# Altium integrated library NSC Amplifier.IntLib: 1615 symbols (part 12 of 44)
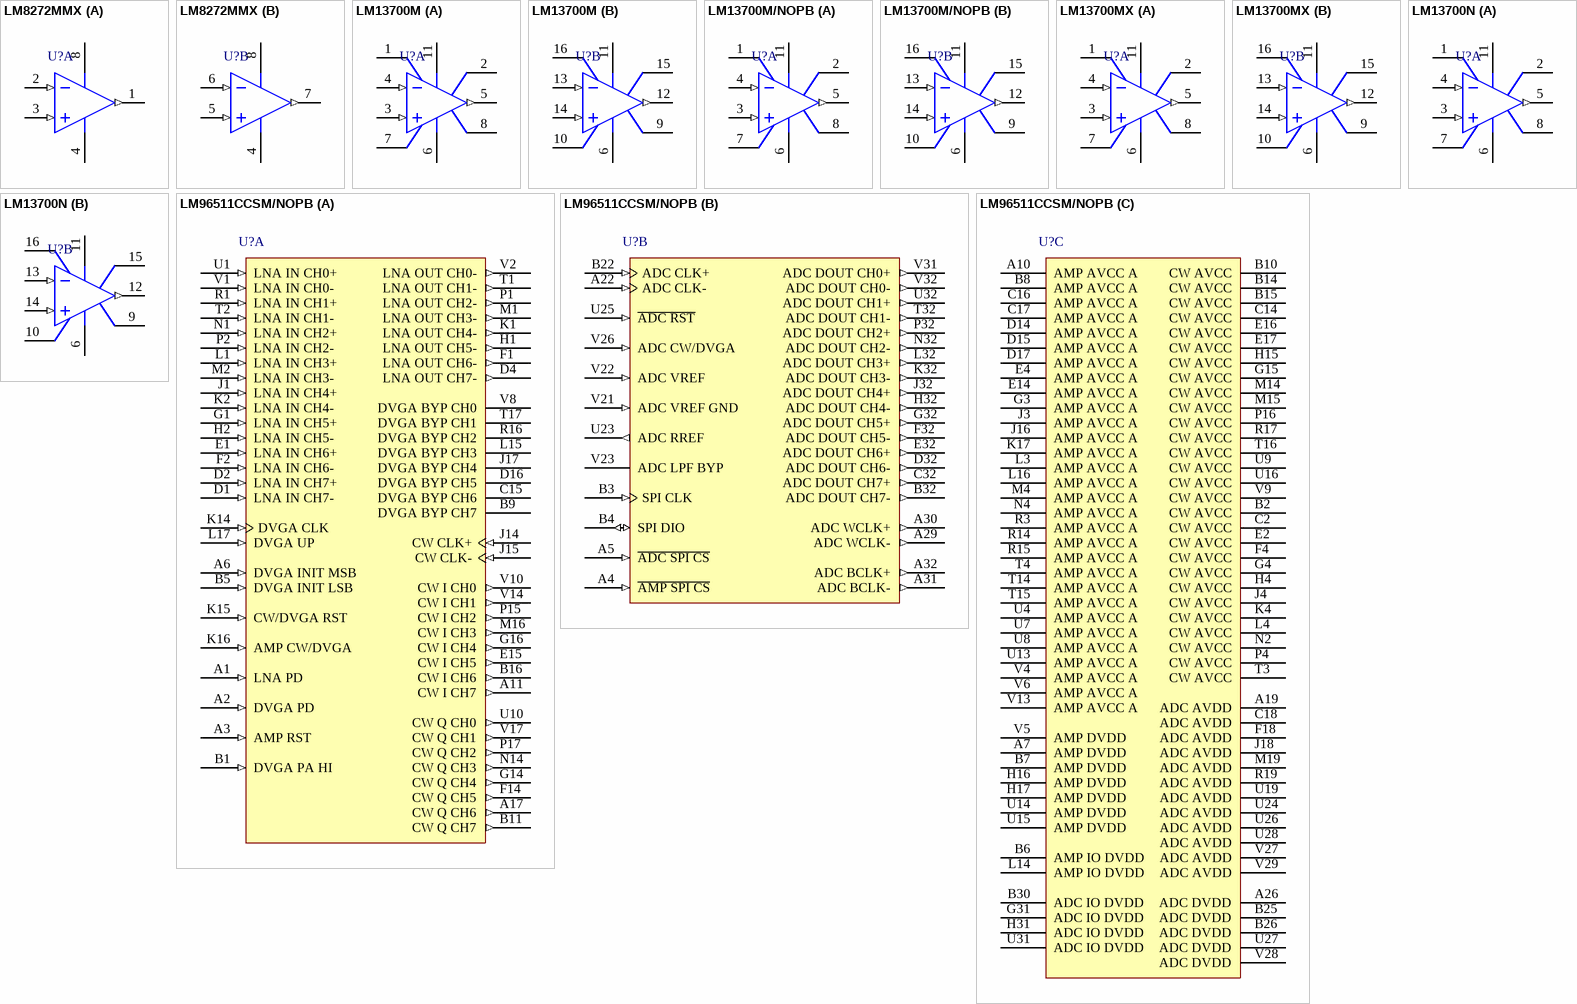
[diagram p93: symbols LM8272MMX to LM96511CCSM/NOPB]

## LM13700M/NOPB
designator U?
Dual Operational Transconductance Amplifier with Linearizing Diodes and Buffers, 16-pin Narrow SOIC, Pb-Free; PartNumber: LM13700M/NOPB; Manufacturer: National Semiconductor; PackageTopMarking: NSUZXYTTE#*LM13700M; PowerWise: N; CompType: Amplifiers; Published: 1-Mar-2010; DatasheetVersion: Jun-2004; PackageVersion: revJ, Aug-1995; PackageReference: M16A; Publisher: Altium Limited; PackageDescription: Molded Package, SO, .150in Wide, 16 Lead; Supplier 1: Digi-Key; Supplier Part Number 1: LM13700M-ND; Supplier 2: Farnell; Supplier Part Number 2: 1468910; RoHS: Y; PinCount: 16; Code_JEDEC: MS-012-AC; Code_IPC: SOIC127P600-16; ComponentLink1Description: LM13700 Datasheet; ComponentLink1URL: http://www.national.com/ds/LM/LM13700.pdf; ComponentLink2Description: LM13700 Web Page; ComponentLink2URL: http://www.national.com/pf/LM/LM13700.html; ComponentLink3Description: M16A Package Page; ComponentLink3URL: http://www.national.com/packaging/folders/m16a.html
footprint M16A_N (SOIC, 16-Leads, Body 9.9x3.9mm, Pitch 1.27mm, IPC Medium Density)
footprint M16A_L (SOIC, 16-Leads, Body 9.9x3.9mm, Pitch 1.27mm, IPC High Density)
footprint M16A_M (SOIC, 16-Leads, Body 9.9x3.9mm, Pitch 1.27mm, IPC Low Density)
simulation model LM13700 (SUBCKT)
pins on every part: 6 V- (power), 11 V+ (power)
part A pins: 1 AMP BIAS IN1, 2 DIODE BIAS1, 3 IN1+ (in), 4 IN1- (in), 5 OUT1 (out), 7 BUF IN1, 8 BUF OUT1
part B pins: 9 BUF OUT2, 10 BUF IN2, 12 OUT2 (out), 13 IN2- (in), 14 IN2+ (in), 15 DIODE BIAS2, 16 AMP BIAS IN2

## LM13700MX
designator U?
Dual Operational Transconductance Amplifier with Linearizing Diodes and Buffers, 16-pin Narrow SOIC; PartNumber: LM13700MX; Manufacturer: National Semiconductor; PackageTopMarking: NSUZXYTTE#*LM13700M; PowerWise: N; CompType: Amplifiers; Published: 1-Mar-2010; DatasheetVersion: Jun-2004; PackageVersion: revJ, Aug-1995; PackageReference: M16A; Publisher: Altium Limited; PackageDescription: Molded Package, SO, .150in Wide, 16 Lead; RoHS: N; PinCount: 16; Code_JEDEC: MS-012-AC; Code_IPC: SOIC127P600-16; ComponentLink1Description: LM13700 Datasheet; ComponentLink1URL: http://www.national.com/ds/LM/LM13700.pdf; ComponentLink2Description: LM13700 Web Page; ComponentLink2URL: http://www.national.com/pf/LM/LM13700.html; ComponentLink3Description: M16A Package Page; ComponentLink3URL: http://www.national.com/packaging/folders/m16a.html
footprint M16A_N (SOIC, 16-Leads, Body 9.9x3.9mm, Pitch 1.27mm, IPC Medium Density)
footprint M16A_L (SOIC, 16-Leads, Body 9.9x3.9mm, Pitch 1.27mm, IPC High Density)
footprint M16A_M (SOIC, 16-Leads, Body 9.9x3.9mm, Pitch 1.27mm, IPC Low Density)
simulation model LM13700 (SUBCKT)
pins on every part: 6 V- (power), 11 V+ (power)
part A pins: 1 AMP BIAS IN1, 2 DIODE BIAS1, 3 IN1+ (in), 4 IN1- (in), 5 OUT1 (out), 7 BUF IN1, 8 BUF OUT1
part B pins: 9 BUF OUT2, 10 BUF IN2, 12 OUT2 (out), 13 IN2- (in), 14 IN2+ (in), 15 DIODE BIAS2, 16 AMP BIAS IN2

## LM13700N
designator U?
Dual Operational Transconductance Amplifier with Linearizing Diodes and Buffers, 16-pin MDIP; PartNumber: LM13700N; Manufacturer: National Semiconductor; PackageTopMarking: NSUZXYYTTE#*LM13700N; PowerWise: N; CompType: Amplifiers; Published: 4-Dec-2008; LatestRevisionDate: 13-Jan-2009; LatestRevisionNote: Sim Model Added.; DatasheetVersion: Jun-2004; PackageVersion: revG, May-2006; PackageReference: N16E; Publisher: Altium Limited; PackageDescription: MDIP, .750 x .250 x .130in, 16 Lead, .100in Pitch; RoHS: N; PinCount: 16; Code_JEDEC: MS-001-BB; ComponentLink1Description: LM13700 Datasheet; ComponentLink1URL: http://www.national.com/ds/LM/LM13700.pdf; ComponentLink2Description: LM13700 Web Page; ComponentLink2URL: http://www.national.com/pf/LM/LM13700.html; ComponentLink3Description: N16E Package Page; ComponentLink3URL: http://www.national.com/packaging/folders/n16e.html
footprint N16E (DIP, 16-Leads, Row Spacing 7.62mm, Pitch 2.54mm, Body 19.3x6.35mm)
simulation model LM13700 (SUBCKT)
pins on every part: 6 V- (power), 11 V+ (power)
part A pins: 1 AMP BIAS IN1, 2 DIODE BIAS1, 3 IN1+ (in), 4 IN1- (in), 5 OUT1 (out), 7 BUF IN1, 8 BUF OUT1
part B pins: 9 BUF OUT2, 10 BUF IN2, 12 OUT2 (out), 13 IN2- (in), 14 IN2+ (in), 15 DIODE BIAS2, 16 AMP BIAS IN2

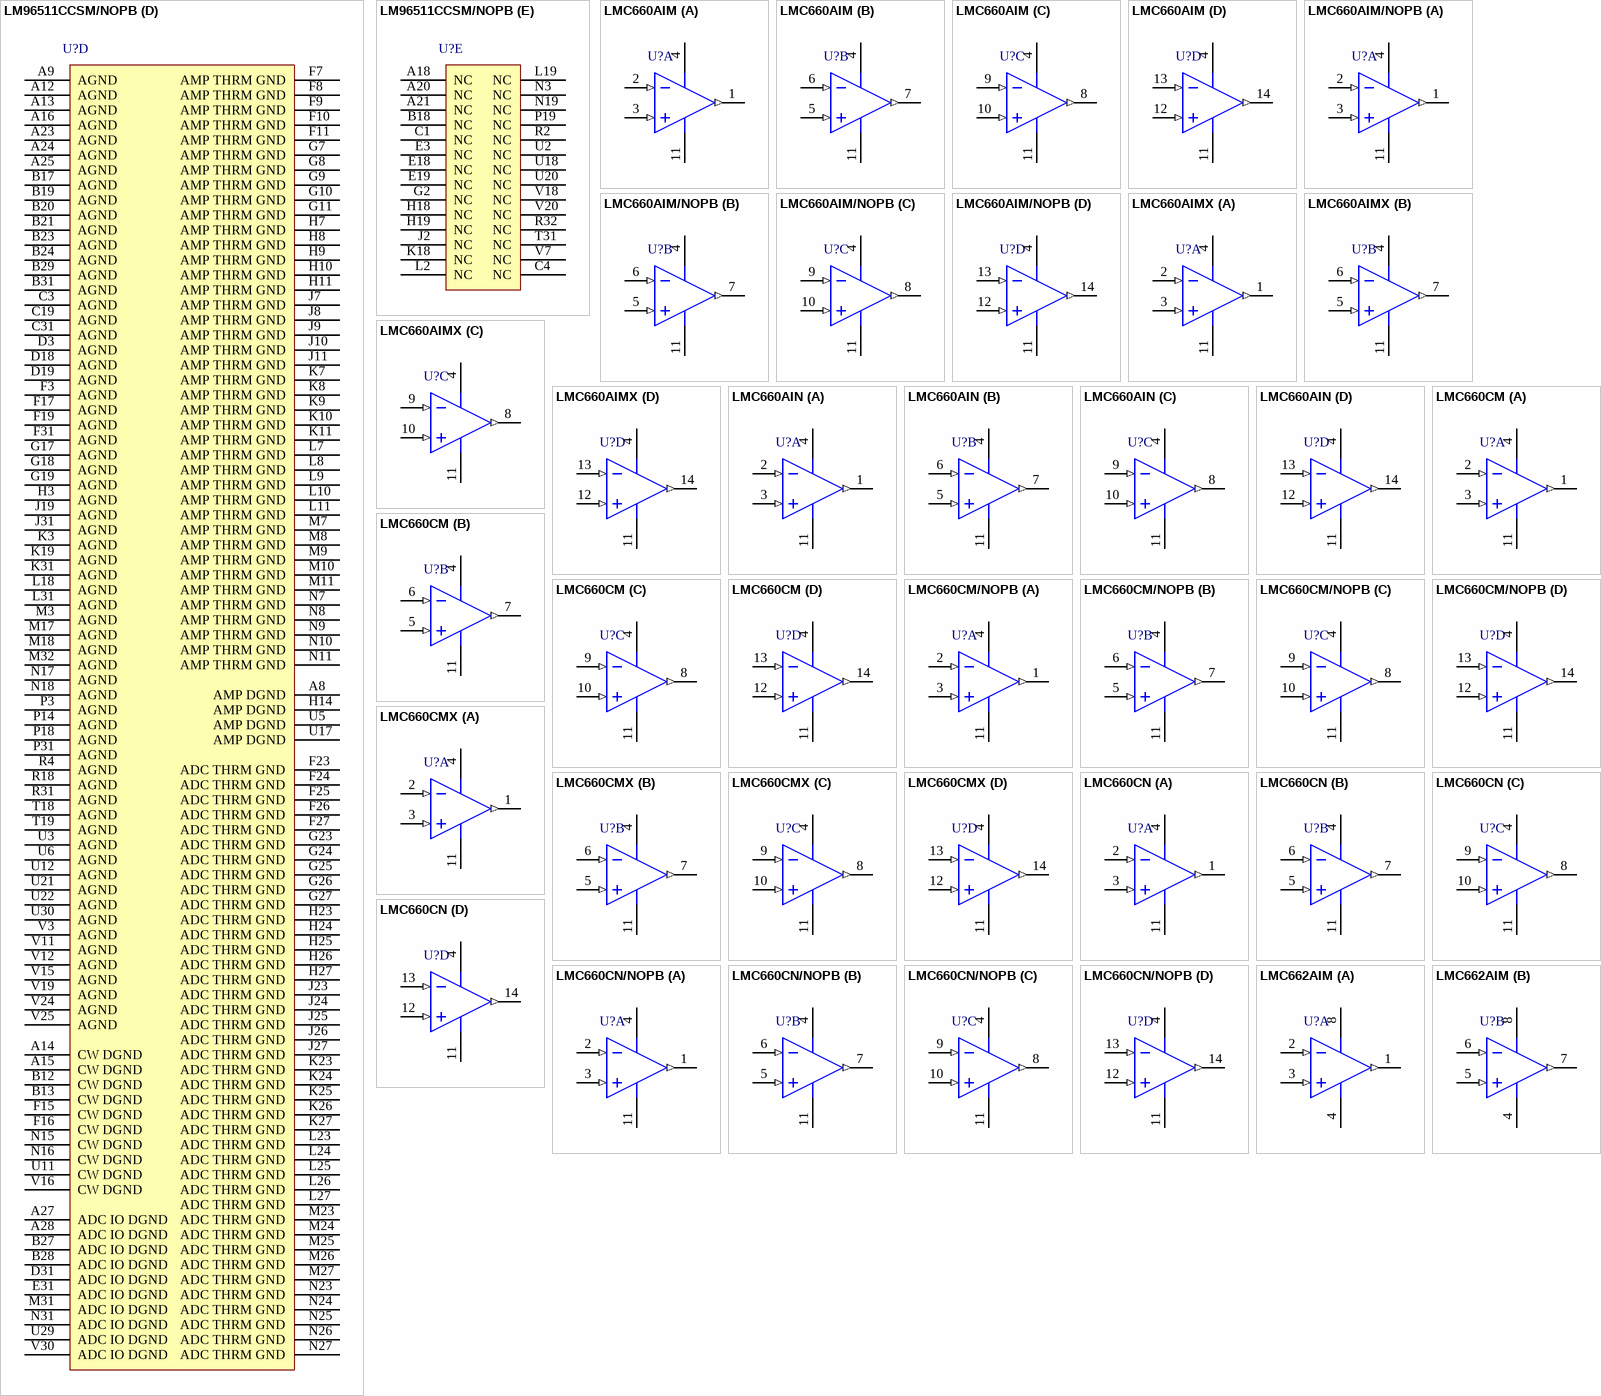
[diagram p26: symbols LM96511CCSM/NOPB to LMC662AIM]

## LM96511CCSM/NOPB
designator U?
Ultrasound Receive Analog Front End (AFE), 376 pin TFBGA *amplifier*adc*; PartNumber: LM96511CCSM/NOPB; Manufacturer: National Semiconductor; PackageTopMarking: UZXYTTE#*LM96511; PowerWise: N; CompType: Amplifiers; Published: 16-Nov-2010; DatasheetVersion: Sep-2010; PackageVersion: revA, Aug-2008; PackageReference: SLM376A; Publisher: Altium Limited; PackageDescription: TFBGA, Plastic, Laminate, 17 x 10 x 1.2mm, 376 Ball, 0.5mm Pitch; RoHS: Y; PinCount: 376; ComponentLink1Description: LM96511 Datasheet; ComponentLink1URL: http://www.national.com/ds/LM/LM96511.pdf; ComponentLink2Description: LM96511 Web Page; ComponentLink2URL: http://www.national.com/pf/LM/LM96511.html
footprint SLM376A (BGA, 376-Leads, Body 10x17mm, Pitch 0.5mm)
part A pins: A1 LNA PD (in), A2 DVGA PD (in), A3 AMP RST (in), A6 DVGA INIT MSB (in), A11 CW I CH7 (out), A17 CW Q CH6 (out), B1 DVGA PA HI (in), B5 DVGA INIT LSB (in), B9 DVGA BYP CH7, B11 CW Q CH7 (out), B16 CW I CH6 (out), C15 DVGA BYP CH6, D1 LNA IN CH7- (in), D2 LNA IN CH7+ (in), D4 LNA OUT CH7- (out), D16 DVGA BYP CH5, E1 LNA IN CH6+ (in), E15 CW I CH5 (out), F1 LNA OUT CH6- (out), F2 LNA IN CH6- (in), F14 CW Q CH5 (out), G1 LNA IN CH5+ (in), G14 CW Q CH4 (out), G16 CW I CH4 (out), H1 LNA OUT CH5- (out), H2 LNA IN CH5- (in), J1 LNA IN CH4+ (in), J14 CW CLK+ (in), J15 CW CLK- (in), J17 DVGA BYP CH4, K1 LNA OUT CH4- (out), K2 LNA IN CH4- (in), K14 DVGA CLK (in), K15 CW/DVGA RST (in), K16 AMP CW/DVGA  (in), L1 LNA IN CH3+ (in), L15 DVGA BYP CH3, L17 DVGA UP (in), M1 LNA OUT CH3- (out), M2 LNA IN CH3- (in), M16 CW I CH3 (out), N1 LNA IN CH2+ (in), N14 CW Q CH3 (out), P1 LNA OUT CH2- (out), P2 LNA IN CH2- (in), P15 CW I CH2 (out), P17 CW Q CH2 (out), R1 LNA IN CH1+ (in), R16 DVGA BYP CH2, T1 LNA OUT CH1- (out), T2 LNA IN CH1- (in), T17 DVGA BYP CH1, U1 LNA IN CH0+ (in), U10 CW Q CH0 (out), V1 LNA IN CH0- (in), V2 LNA OUT CH0- (out), V8 DVGA BYP CH0, V10 CW I CH0 (out), V14 CW I CH1 (out), V17 CW Q CH1 (out)
part B pins: A4 ~{AMP SPI CS} (in), A5 ~{ADC SPI CS} (in), A22 ADC CLK- (in), A29 ADC WCLK- (out), A30 ADC WCLK+ (out), A31 ADC BCLK- (out), A32 ADC BCLK+ (out), B3 SPI CLK (in), B4 SPI DIO (io), B22 ADC CLK+ (in), B32 ADC DOUT CH7- (out), C32 ADC DOUT CH7+ (out), D32 ADC DOUT CH6- (out), E32 ADC DOUT CH6+ (out), F32 ADC DOUT CH5- (out), G32 ADC DOUT CH5+ (out), H32 ADC DOUT CH4- (out), J32 ADC DOUT CH4+ (out), K32 ADC DOUT CH3- (out), L32 ADC DOUT CH3+ (out), N32 ADC DOUT CH2- (out), P32 ADC DOUT CH2+ (out), T32 ADC DOUT CH1- (out), U23 ADC RREF (out), U25 ~{ADC RST} (in), U32 ADC DOUT CH1+ (out), V21 ADC VREF GND (in), V22 ADC VREF (in), V23 ADC LPF BYP, V26 ADC CW/DVGA (in), V31 ADC DOUT CH0+ (out), V32 ADC DOUT CH0- (out)
part C pins: A7 AMP DVDD (power), A10 AMP AVCC A (power), A19 ADC AVDD (power), A26 ADC DVDD (power), B2 CW AVCC (power), B6 AMP IO DVDD (power), B7 AMP DVDD (power), B8 AMP AVCC A (power), B10 CW AVCC (power), B14 CW AVCC (power), B15 CW AVCC (power), B25 ADC DVDD (power), B26 ADC DVDD (power), B30 ADC IO DVDD (power), C2 CW AVCC (power), C14 CW AVCC (power), C16 AMP AVCC A (power), C17 AMP AVCC A (power), C18 ADC AVDD (power), D14 AMP AVCC A (power), D15 AMP AVCC A (power), D17 AMP AVCC A (power), E2 CW AVCC (power), E4 AMP AVCC A (power), E14 AMP AVCC A (power), E16 CW AVCC (power), E17 CW AVCC (power), F4 CW AVCC (power), F18 ADC AVDD (power), G3 AMP AVCC A (power), G4 CW AVCC (power), G15 CW AVCC (power), G31 ADC IO DVDD (power), H4 CW AVCC (power), H15 CW AVCC (power), H16 AMP DVDD (power), H17 AMP DVDD (power), H31 ADC IO DVDD (power), J3 AMP AVCC A (power), J4 CW AVCC (power), J16 AMP AVCC A (power), J18 ADC AVDD (power), K4 CW AVCC (power), K17 AMP AVCC A (power), L3 AMP AVCC A (power), L4 CW AVCC (power), L14 AMP IO DVDD (power), L16 AMP AVCC A (power), M4 AMP AVCC A (power), M14 CW AVCC (power), M15 CW AVCC (power), M19 ADC AVDD (power), N2 CW AVCC (power), N4 AMP AVCC A (power), P4 CW AVCC (power), P16 CW AVCC (power), R3 AMP AVCC A (power), R14 AMP AVCC A (power), R15 AMP AVCC A (power), R17 CW AVCC (power), R19 ADC AVDD (power), T3 CW AVCC (power), T4 AMP AVCC A (power), T14 AMP AVCC A (power), T15 AMP AVCC A (power), T16 CW AVCC (power), U4 AMP AVCC A (power), U7 AMP AVCC A (power), U8 AMP AVCC A (power), U9 CW AVCC (power), U13 AMP AVCC A (power), U14 AMP DVDD (power), U15 AMP DVDD (power), U16 CW AVCC (power), U19 ADC AVDD (power), U24 ADC AVDD (power), U26 ADC AVDD (power), U27 ADC DVDD (power), U28 ADC AVDD (power), U31 ADC IO DVDD (power), V4 AMP AVCC A (power), V5 AMP DVDD (power), V6 AMP AVCC A (power), V9 CW AVCC (power), V13 AMP AVCC A (power), V27 ADC AVDD (power), V28 ADC DVDD (power), V29 ADC AVDD (power)
part D pins: A8 AMP DGND (power), A9 AGND (power), A12 AGND (power), A13 AGND (power), A14 CW DGND (power), A15 CW DGND (power), A16 AGND (power), A23 AGND (power), A24 AGND (power), A25 AGND (power), A27 ADC IO DGND (power), A28 ADC IO DGND (power), B12 CW DGND (power), B13 CW DGND (power), B17 AGND (power), B19 AGND (power), B20 AGND (power), B21 AGND (power), B23 AGND (power), B24 AGND (power), B27 ADC IO DGND (power), B28 ADC IO DGND (power), B29 AGND (power), B31 AGND (power), C3 AGND (power), C19 AGND (power), C31 AGND (power), D3 AGND (power), D18 AGND (power), D19 AGND (power), D31 ADC IO DGND (power), E31 ADC IO DGND (power), F3 AGND (power), F7 AMP THRM GND (power), F8 AMP THRM GND (power), F9 AMP THRM GND (power), F10 AMP THRM GND (power), F11 AMP THRM GND (power), F15 CW DGND (power), F16 CW DGND (power), F17 AGND (power), F19 AGND (power), F23 ADC THRM GND (power), F24 ADC THRM GND (power), F25 ADC THRM GND (power), F26 ADC THRM GND (power), F27 ADC THRM GND (power), F31 AGND (power), G7 AMP THRM GND (power), G8 AMP THRM GND (power), G9 AMP THRM GND (power), G10 AMP THRM GND (power), G11 AMP THRM GND (power), G17 AGND (power), G18 AGND (power), G19 AGND (power), G23 ADC THRM GND (power), G24 ADC THRM GND (power), G25 ADC THRM GND (power), G26 ADC THRM GND (power), G27 ADC THRM GND (power), H3 AGND (power), H7 AMP THRM GND (power), H8 AMP THRM GND (power), H9 AMP THRM GND (power), H10 AMP THRM GND (power), H11 AMP THRM GND (power), H14 AMP DGND (power), H23 ADC THRM GND (power), H24 ADC THRM GND (power), H25 ADC THRM GND (power), H26 ADC THRM GND (power), H27 ADC THRM GND (power), J7 AMP THRM GND (power), J8 AMP THRM GND (power), J9 AMP THRM GND (power), J10 AMP THRM GND (power), J11 AMP THRM GND (power), J19 AGND (power), J23 ADC THRM GND (power), J24 ADC THRM GND (power), J25 ADC THRM GND (power), J26 ADC THRM GND (power), J27 ADC THRM GND (power), J31 AGND (power), K3 AGND (power), K7 AMP THRM GND (power), K8 AMP THRM GND (power), K9 AMP THRM GND (power), K10 AMP THRM GND (power), K11 AMP THRM GND (power), K19 AGND (power), K23 ADC THRM GND (power), K24 ADC THRM GND (power), K25 ADC THRM GND (power), K26 ADC THRM GND (power), K27 ADC THRM GND (power), K31 AGND (power), L7 AMP THRM GND (power), L8 AMP THRM GND (power), L9 AMP THRM GND (power), L10 AMP THRM GND (power), L11 AMP THRM GND (power), L18 AGND (power), L23 ADC THRM GND (power), L24 ADC THRM GND (power), L25 ADC THRM GND (power), L26 ADC THRM GND (power), L27 ADC THRM GND (power), L31 AGND (power), M3 AGND (power), M7 AMP THRM GND (power), M8 AMP THRM GND (power), M9 AMP THRM GND (power), M10 AMP THRM GND (power), M11 AMP THRM GND (power), M17 AGND (power), M18 AGND (power), M23 ADC THRM GND (power), M24 ADC THRM GND (power), M25 ADC THRM GND (power), M26 ADC THRM GND (power), M27 ADC THRM GND (power), M31 ADC IO DGND (power), M32 AGND (power), N7 AMP THRM GND (power), N8 AMP THRM GND (power), N9 AMP THRM GND (power), N10 AMP THRM GND (power), N11 AMP THRM GND (power), N15 CW DGND (power), N16 CW DGND (power), N17 AGND (power), N18 AGND (power), N23 ADC THRM GND (power), N24 ADC THRM GND (power), N25 ADC THRM GND (power), N26 ADC THRM GND (power), N27 ADC THRM GND (power), N31 ADC IO DGND (power), P3 AGND (power), P14 AGND (power), P18 AGND (power), P31 AGND (power), R4 AGND (power), R18 AGND (power), R31 AGND (power), T18 AGND (power), T19 AGND (power), U3 AGND (power), U5 AMP DGND (power), U6 AGND (power), U11 CW DGND (power), U12 AGND (power), U17 AMP DGND (power), U21 AGND (power), U22 AGND (power), U29 ADC IO DGND (power), U30 AGND (power), V3 AGND (power), V11 AGND (power), V12 AGND (power), V15 AGND (power), V16 CW DGND (power), V19 AGND (power), V24 AGND (power), V25 AGND (power), V30 ADC IO DGND (power)
part E pins: A18 NC, A20 NC, A21 NC, B18 NC, C1 NC, C4 NC, E3 NC, E18 NC, E19 NC, G2 NC, H18 NC, H19 NC, J2 NC, K18 NC, L2 NC, L19 NC, N3 NC, N19 NC, P19 NC, R2 NC, R32 NC, T31 NC, U2 NC, U18 NC, U20 NC, V7 NC, V18 NC, V20 NC

## LMC660AIM
designator U?
CMOS Quad Operational Amplifier, 14-pin Narrow SOIC; PartNumber: LMC660AIM; Manufacturer: National Semiconductor; PackageTopMarking: NSUZXYTTE#*LMC660AIM; PowerWise: N; CompType: Amplifiers; Published: 4-Dec-2008; LatestRevisionDate: 13-Jan-2009; LatestRevisionNote: Sim Model Added.; DatasheetVersion: Jun-2006; PackageVersion: revJ, Jan-1996; PackageReference: M14A; Publisher: Altium Limited; PackageDescription: Molded Package S.O., .150in Wide, 14 Lead; RoHS: N; PinCount: 14; Code_JEDEC: MS-012AB; Code_IPC: SOIC127P600-14; ComponentLink1Description: LMC660 Datasheet; ComponentLink1URL: http://www.national.com/ds/LM/LMC660.pdf; ComponentLink2Description: LMC660 Web Page; ComponentLink2URL: http://www.national.com/pf/LM/LMC660.html; ComponentLink3Description: M14A Package Page; ComponentLink3URL: http://www.national.com/packaging/folders/m14a.html
footprint M14A_N (SOIC, 14-Leads, Body 8.6x3.9mm, Pitch 1.27mm, IPC Medium Density)
footprint M14A_L (SOIC, 14-Leads, Body 8.6x3.9mm, Pitch 1.27mm, IPC High Density)
footprint M14A_M (SOIC, 14-Leads, Body 8.6x3.9mm, Pitch 1.27mm, IPC Low Density)
simulation model LMC660A (SUBCKT)
pins on every part: 4 V+ (power), 11 V- (power)
part A pins: 1 OUT1 (out), 2 IN1- (in), 3 IN1+ (in)
part B pins: 5 IN2+ (in), 6 IN2- (in), 7 OUT2 (out)
part C pins: 8 OUT3 (out), 9 IN3- (in), 10 IN3+ (in)
part D pins: 12 IN4+ (in), 13 IN4- (in), 14 OUT4 (out)

## LMC660AIM/NOPB
designator U?
CMOS Quad Operational Amplifier, 14-pin Narrow SOIC, Pb-Free; PartNumber: LMC660AIM/NOPB; Manufacturer: National Semiconductor; PackageTopMarking: NSUZXYTTE#*LMC660AIM; PowerWise: N; CompType: Amplifiers; Published: 1-Mar-2010; DatasheetVersion: Jun-2006; PackageVersion: revJ, Jan-1996; PackageReference: M14A; Publisher: Altium Limited; PackageDescription: Molded Package S.O., .150in Wide, 14 Lead; Supplier 1: Digi-Key; Supplier Part Number 1: LMC660AIM-ND; Supplier 2: Farnell; Supplier Part Number 2: 1685336; RoHS: Y; PinCount: 14; Code_JEDEC: MS-012AB; Code_IPC: SOIC127P600-14; ComponentLink1Description: LMC660 Datasheet; ComponentLink1URL: http://www.national.com/ds/LM/LMC660.pdf; ComponentLink2Description: LMC660 Web Page; ComponentLink2URL: http://www.national.com/pf/LM/LMC660.html; ComponentLink3Description: M14A Package Page; ComponentLink3URL: http://www.national.com/packaging/folders/m14a.html
footprint M14A_N (SOIC, 14-Leads, Body 8.6x3.9mm, Pitch 1.27mm, IPC Medium Density)
footprint M14A_L (SOIC, 14-Leads, Body 8.6x3.9mm, Pitch 1.27mm, IPC High Density)
footprint M14A_M (SOIC, 14-Leads, Body 8.6x3.9mm, Pitch 1.27mm, IPC Low Density)
simulation model LMC660A (SUBCKT)
pins on every part: 4 V+ (power), 11 V- (power)
part A pins: 1 OUT1 (out), 2 IN1- (in), 3 IN1+ (in)
part B pins: 5 IN2+ (in), 6 IN2- (in), 7 OUT2 (out)
part C pins: 8 OUT3 (out), 9 IN3- (in), 10 IN3+ (in)
part D pins: 12 IN4+ (in), 13 IN4- (in), 14 OUT4 (out)

## LMC660AIMX
designator U?
CMOS Quad Operational Amplifier, 14-pin Narrow SOIC; PartNumber: LMC660AIMX; Manufacturer: National Semiconductor; PackageTopMarking: NSUZXYTTE#*LMC660AIM; PowerWise: N; CompType: Amplifiers; Published: 1-Mar-2010; DatasheetVersion: Jun-2006; PackageVersion: revJ, Jan-1996; PackageReference: M14A; Publisher: Altium Limited; PackageDescription: Molded Package S.O., .150in Wide, 14 Lead; RoHS: N; PinCount: 14; Code_JEDEC: MS-012AB; Code_IPC: SOIC127P600-14; ComponentLink1Description: LMC660 Datasheet; ComponentLink1URL: http://www.national.com/ds/LM/LMC660.pdf; ComponentLink2Description: LMC660 Web Page; ComponentLink2URL: http://www.national.com/pf/LM/LMC660.html; ComponentLink3Description: M14A Package Page; ComponentLink3URL: http://www.national.com/packaging/folders/m14a.html
footprint M14A_N (SOIC, 14-Leads, Body 8.6x3.9mm, Pitch 1.27mm, IPC Medium Density)
footprint M14A_L (SOIC, 14-Leads, Body 8.6x3.9mm, Pitch 1.27mm, IPC High Density)
footprint M14A_M (SOIC, 14-Leads, Body 8.6x3.9mm, Pitch 1.27mm, IPC Low Density)
simulation model LMC660A (SUBCKT)
pins on every part: 4 V+ (power), 11 V- (power)
part A pins: 1 OUT1 (out), 2 IN1- (in), 3 IN1+ (in)
part B pins: 5 IN2+ (in), 6 IN2- (in), 7 OUT2 (out)
part C pins: 8 OUT3 (out), 9 IN3- (in), 10 IN3+ (in)
part D pins: 12 IN4+ (in), 13 IN4- (in), 14 OUT4 (out)

## LMC660AIN
designator U?
CMOS Quad Operational Amplifier, 14-pin MDIP; PartNumber: LMC660AIN; Manufacturer: National Semiconductor; PackageTopMarking: NSUZXYYTTE#*LMC660AIN; PowerWise: N; CompType: Amplifiers; Published: 4-Dec-2008; LatestRevisionDate: 13-Jan-2009; LatestRevisionNote: Sim Model Added.; DatasheetVersion: Jun-2006; PackageVersion: revG, May-2006; PackageReference: N14A; Publisher: Altium Limited; PackageDescription: MDIP, .750 x .250 x.130in, 14 Lead, .100in Pitch; Supplier 1: Farnell; Supplier Part Number 1: 9487107; RoHS: N; PinCount: 14; Code_JEDEC: MS-001-AA; ComponentLink1Description: LMC660 Datasheet; ComponentLink1URL: http://www.national.com/ds/LM/LMC660.pdf; ComponentLink2Description: LMC660 Web Page; ComponentLink2URL: http://www.national.com/pf/LM/LMC660.html; ComponentLink3Description: N14A Package Page; ComponentLink3URL: http://www.national.com/packaging/folders/n14a.html
footprint N14A (DIP, 14-Leads, Row Spacing 7.62mm, Pitch 2.54mm, Body 19.56x6.35mm)
simulation model LMC660A (SUBCKT)
pins on every part: 4 V+ (power), 11 V- (power)
part A pins: 1 OUT1 (out), 2 IN1- (in), 3 IN1+ (in)
part B pins: 5 IN2+ (in), 6 IN2- (in), 7 OUT2 (out)
part C pins: 8 OUT3 (out), 9 IN3- (in), 10 IN3+ (in)
part D pins: 12 IN4+ (in), 13 IN4- (in), 14 OUT4 (out)

## LMC660CM
designator U?
CMOS Quad Operational Amplifier, 14-pin Narrow SOIC; PartNumber: LMC660CM; Manufacturer: National Semiconductor; PackageTopMarking: NSUZXYTTE#*LMC660CM; PowerWise: N; CompType: Amplifiers; Published: 4-Dec-2008; LatestRevisionDate: 13-Jan-2009; LatestRevisionNote: Sim Model Added.; DatasheetVersion: Jun-2006; PackageVersion: revJ, Jan-1996; PackageReference: M14A; Publisher: Altium Limited; PackageDescription: Molded Package S.O., .150in Wide, 14 Lead; Supplier 1: Farnell; Supplier Part Number 1: 9487115; RoHS: N; PinCount: 14; Code_JEDEC: MS-012AB; Code_IPC: SOIC127P600-14; ComponentLink1Description: LMC660 Datasheet; ComponentLink1URL: http://www.national.com/ds/LM/LMC660.pdf; ComponentLink2Description: LMC660 Web Page; ComponentLink2URL: http://www.national.com/pf/LM/LMC660.html; ComponentLink3Description: M14A Package Page; ComponentLink3URL: http://www.national.com/packaging/folders/m14a.html
footprint M14A_N (SOIC, 14-Leads, Body 8.6x3.9mm, Pitch 1.27mm, IPC Medium Density)
footprint M14A_L (SOIC, 14-Leads, Body 8.6x3.9mm, Pitch 1.27mm, IPC High Density)
footprint M14A_M (SOIC, 14-Leads, Body 8.6x3.9mm, Pitch 1.27mm, IPC Low Density)
simulation model LMC660A (SUBCKT)
pins on every part: 4 V+ (power), 11 V- (power)
part A pins: 1 OUT1 (out), 2 IN1- (in), 3 IN1+ (in)
part B pins: 5 IN2+ (in), 6 IN2- (in), 7 OUT2 (out)
part C pins: 8 OUT3 (out), 9 IN3- (in), 10 IN3+ (in)
part D pins: 12 IN4+ (in), 13 IN4- (in), 14 OUT4 (out)

## LMC660CM/NOPB
designator U?
CMOS Quad Operational Amplifier, 14-pin Narrow SOIC, Pb-Free; PartNumber: LMC660CM/NOPB; Manufacturer: National Semiconductor; PackageTopMarking: NSUZXYTTE#*LMC660CM; PowerWise: N; CompType: Amplifiers; Published: 1-Mar-2010; DatasheetVersion: Jun-2006; PackageVersion: revJ, Jan-1996; PackageReference: M14A; Publisher: Altium Limited; PackageDescription: Molded Package S.O., .150in Wide, 14 Lead; Supplier 1: Digi-Key; Supplier Part Number 1: LMC660CM-ND; Supplier 2: Farnell; Supplier Part Number 2: 1258318; RoHS: Y; PinCount: 14; Code_JEDEC: MS-012AB; Code_IPC: SOIC127P600-14; ComponentLink1Description: LMC660 Datasheet; ComponentLink1URL: http://www.national.com/ds/LM/LMC660.pdf; ComponentLink2Description: LMC660 Web Page; ComponentLink2URL: http://www.national.com/pf/LM/LMC660.html; ComponentLink3Description: M14A Package Page; ComponentLink3URL: http://www.national.com/packaging/folders/m14a.html
footprint M14A_N (SOIC, 14-Leads, Body 8.6x3.9mm, Pitch 1.27mm, IPC Medium Density)
footprint M14A_L (SOIC, 14-Leads, Body 8.6x3.9mm, Pitch 1.27mm, IPC High Density)
footprint M14A_M (SOIC, 14-Leads, Body 8.6x3.9mm, Pitch 1.27mm, IPC Low Density)
simulation model LMC660A (SUBCKT)
pins on every part: 4 V+ (power), 11 V- (power)
part A pins: 1 OUT1 (out), 2 IN1- (in), 3 IN1+ (in)
part B pins: 5 IN2+ (in), 6 IN2- (in), 7 OUT2 (out)
part C pins: 8 OUT3 (out), 9 IN3- (in), 10 IN3+ (in)
part D pins: 12 IN4+ (in), 13 IN4- (in), 14 OUT4 (out)

## LMC660CMX
designator U?
CMOS Quad Operational Amplifier, 14-pin Narrow SOIC; PartNumber: LMC660CMX; Manufacturer: National Semiconductor; PackageTopMarking: NSUZXYTTE#*LMC660CM; PowerWise: N; CompType: Amplifiers; Published: 1-Mar-2010; DatasheetVersion: Jun-2006; PackageVersion: revJ, Jan-1996; PackageReference: M14A; Publisher: Altium Limited; PackageDescription: Molded Package S.O., .150in Wide, 14 Lead; RoHS: N; PinCount: 14; Code_JEDEC: MS-012AB; Code_IPC: SOIC127P600-14; ComponentLink1Description: LMC660 Datasheet; ComponentLink1URL: http://www.national.com/ds/LM/LMC660.pdf; ComponentLink2Description: LMC660 Web Page; ComponentLink2URL: http://www.national.com/pf/LM/LMC660.html; ComponentLink3Description: M14A Package Page; ComponentLink3URL: http://www.national.com/packaging/folders/m14a.html
footprint M14A_N (SOIC, 14-Leads, Body 8.6x3.9mm, Pitch 1.27mm, IPC Medium Density)
footprint M14A_L (SOIC, 14-Leads, Body 8.6x3.9mm, Pitch 1.27mm, IPC High Density)
footprint M14A_M (SOIC, 14-Leads, Body 8.6x3.9mm, Pitch 1.27mm, IPC Low Density)
simulation model LMC660A (SUBCKT)
pins on every part: 4 V+ (power), 11 V- (power)
part A pins: 1 OUT1 (out), 2 IN1- (in), 3 IN1+ (in)
part B pins: 5 IN2+ (in), 6 IN2- (in), 7 OUT2 (out)
part C pins: 8 OUT3 (out), 9 IN3- (in), 10 IN3+ (in)
part D pins: 12 IN4+ (in), 13 IN4- (in), 14 OUT4 (out)

## LMC660CN
designator U?
CMOS Quad Operational Amplifier, 14-pin MDIP; PartNumber: LMC660CN; Manufacturer: National Semiconductor; PackageTopMarking: NSUZXYYTTE#*LMC660CN; PowerWise: N; CompType: Amplifiers; Published: 4-Dec-2008; LatestRevisionDate: 13-Jan-2009; LatestRevisionNote: Sim Model Added.; DatasheetVersion: Jun-2006; PackageVersion: revG, May-2006; PackageReference: N14A; Publisher: Altium Limited; PackageDescription: MDIP, .750 x .250 x.130in, 14 Lead, .100in Pitch; Supplier 1: Farnell; Supplier Part Number 1: 9487123; RoHS: N; PinCount: 14; Code_JEDEC: MS-001-AA; ComponentLink1Description: LMC660 Datasheet; ComponentLink1URL: http://www.national.com/ds/LM/LMC660.pdf; ComponentLink2Description: LMC660 Web Page; ComponentLink2URL: http://www.national.com/pf/LM/LMC660.html; ComponentLink3Description: N14A Package Page; ComponentLink3URL: http://www.national.com/packaging/folders/n14a.html
footprint N14A (DIP, 14-Leads, Row Spacing 7.62mm, Pitch 2.54mm, Body 19.56x6.35mm)
simulation model LMC660A (SUBCKT)
pins on every part: 4 V+ (power), 11 V- (power)
part A pins: 1 OUT1 (out), 2 IN1- (in), 3 IN1+ (in)
part B pins: 5 IN2+ (in), 6 IN2- (in), 7 OUT2 (out)
part C pins: 8 OUT3 (out), 9 IN3- (in), 10 IN3+ (in)
part D pins: 12 IN4+ (in), 13 IN4- (in), 14 OUT4 (out)

## LMC660CN/NOPB
designator U?
CMOS Quad Operational Amplifier, 14-pin MDIP, Pb-Free; PartNumber: LMC660CN/NOPB; Manufacturer: National Semiconductor; PackageTopMarking: NSUZXYYTTE#*LMC660CN; PowerWise: N; CompType: Amplifiers; Published: 1-Mar-2010; DatasheetVersion: Jun-2006; PackageVersion: revG, May-2006; PackageReference: N14A; Publisher: Altium Limited; PackageDescription: MDIP, .750 x .250 x.130in, 14 Lead, .100in Pitch; Supplier 1: Digi-Key; Supplier Part Number 1: LMC660CN-ND; Supplier 2: Farnell; Supplier Part Number 2: 1184962; RoHS: Y; PinCount: 14; Code_JEDEC: MS-001-AA; ComponentLink1Description: LMC660 Datasheet; ComponentLink1URL: http://www.national.com/ds/LM/LMC660.pdf; ComponentLink2Description: LMC660 Web Page; ComponentLink2URL: http://www.national.com/pf/LM/LMC660.html; ComponentLink3Description: N14A Package Page; ComponentLink3URL: http://www.national.com/packaging/folders/n14a.html
footprint N14A (DIP, 14-Leads, Row Spacing 7.62mm, Pitch 2.54mm, Body 19.56x6.35mm)
simulation model LMC660A (SUBCKT)
pins on every part: 4 V+ (power), 11 V- (power)
part A pins: 1 OUT1 (out), 2 IN1- (in), 3 IN1+ (in)
part B pins: 5 IN2+ (in), 6 IN2- (in), 7 OUT2 (out)
part C pins: 8 OUT3 (out), 9 IN3- (in), 10 IN3+ (in)
part D pins: 12 IN4+ (in), 13 IN4- (in), 14 OUT4 (out)

## LMC662AIM
designator U?
CMOS Dual Operational Amplifier, 8-pin Narrow SOIC; PartNumber: LMC662AIM; Manufacturer: National Semiconductor; PackageTopMarking: NSZXTT*LMC66*2AIM; PowerWise: N; CompType: Amplifiers; Published: 4-Dec-2008; LatestRevisionDate: 13-Jan-2009; LatestRevisionNote: Sim Model Added.; DatasheetVersion: Apr-2003; PackageVersion: revM, May-2009; PackageReference: M08A; Publisher: Altium Limited; PackageDescription: SOIC Narrow, 4.9 x 3.9 x 1.45mm, 8 Lead, 1.27mm Pitch; Supplier 1: Digi-Key; Supplier Part Number 1: LMC662AIM-ND; Supplier 2: Farnell; Supplier Part Number 2: 9494782; RoHS: N; PinCount: 8; Code_JEDEC: MS-012-AA; Code_IPC: SOIC127P600-8; ComponentLink1Description: LMC662 Datasheet; ComponentLink1URL: http://www.national.com/ds/LM/LMC662.pdf; ComponentLink2Description: LMC662 Web Page; ComponentLink2URL: http://www.national.com/pf/LM/LMC662.html; ComponentLink3Description: M08A Package Page; ComponentLink3URL: http://www.national.com/packaging/folders/m08a.html
footprint M08A_N (SOIC, 8-Leads, Body 4.9x3.9mm, Pitch 1.27mm, IPC Medium Density)
footprint M08A_L (SOIC, 8-Leads, Body 4.9x3.9mm, Pitch 1.27mm, IPC High Density)
footprint M08A_M (SOIC, 8-Leads, Body 4.9x3.9mm, Pitch 1.27mm, IPC Low Density)
simulation model LMC662A (SUBCKT)
pins on every part: 4 V- (power), 8 V+ (power)
part A pins: 1 OUTA (out), 2 INA- (in), 3 INA+ (in)
part B pins: 5 INB+ (in), 6 INB- (in), 7 OUTB (out)

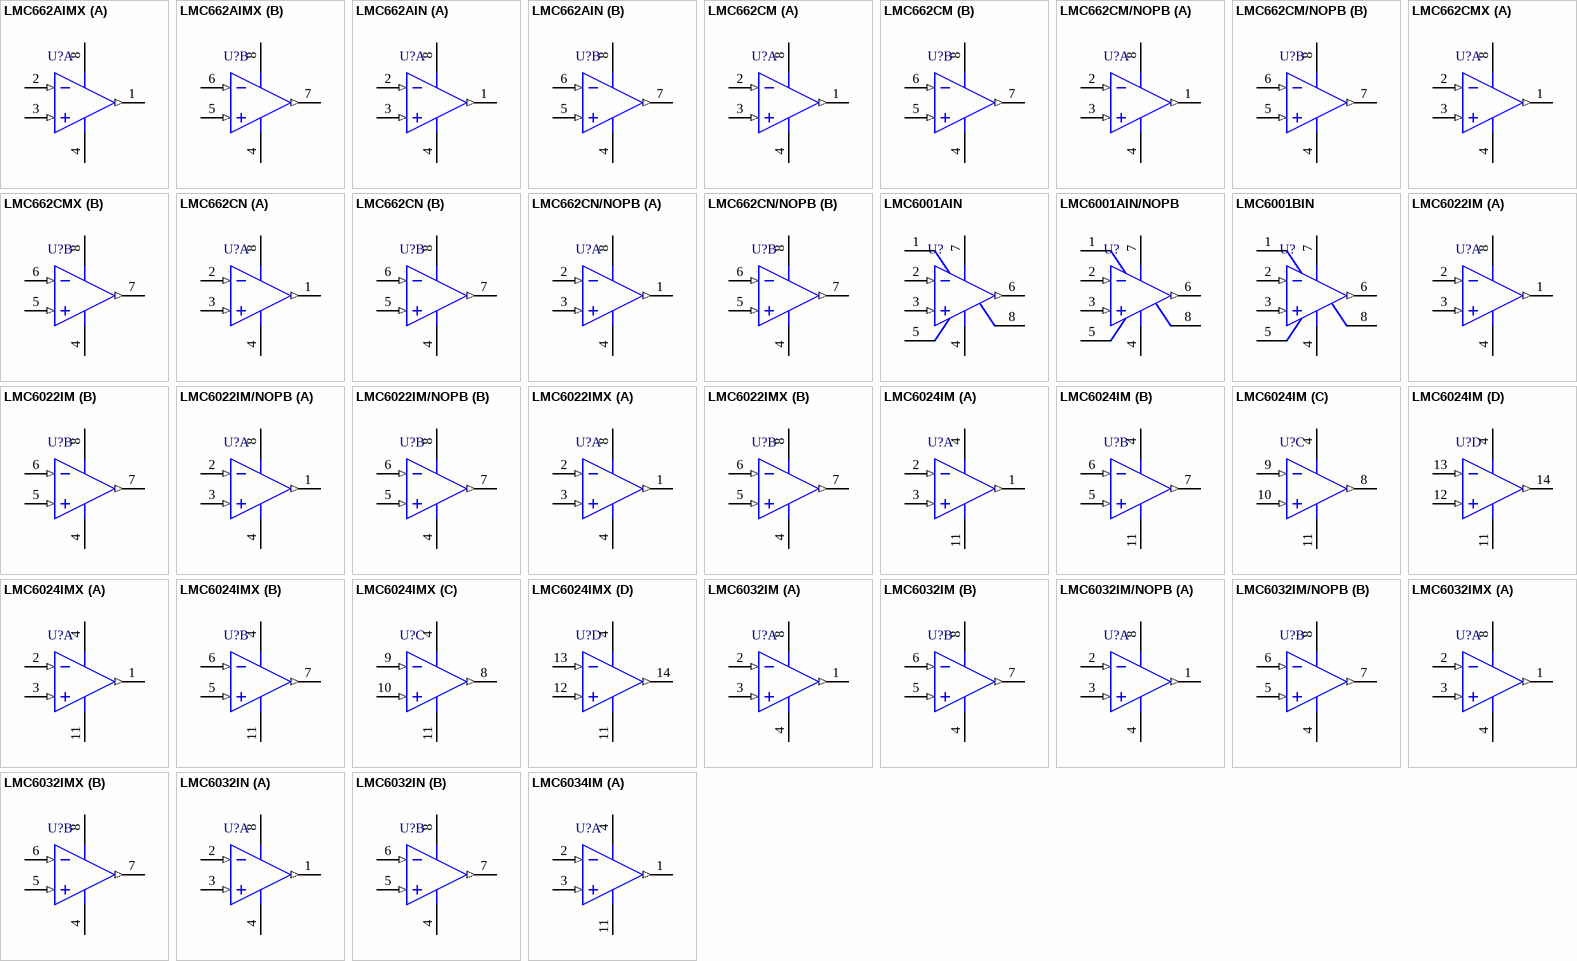
[diagram p27: symbols LMC662AIMX to LMC6034IM]

## LMC662AIMX
designator U?
CMOS Dual Operational Amplifier, 8-pin Narrow SOIC; PartNumber: LMC662AIMX; Manufacturer: National Semiconductor; PackageTopMarking: NSZXTT*LMC66*2AIM; PowerWise: N; CompType: Amplifiers; Published: 1-Mar-2010; DatasheetVersion: Apr-2003; PackageVersion: revM, May-2009; PackageReference: M08A; Publisher: Altium Limited; PackageDescription: SOIC Narrow, 4.9 x 3.9 x 1.45mm, 8 Lead, 1.27mm Pitch; Supplier 1: Digi-Key; Supplier Part Number 1: LMC662AIMX-ND; RoHS: N; PinCount: 8; Code_JEDEC: MS-012-AA; Code_IPC: SOIC127P600-8; ComponentLink1Description: LMC662 Datasheet; ComponentLink1URL: http://www.national.com/ds/LM/LMC662.pdf; ComponentLink2Description: LMC662 Web Page; ComponentLink2URL: http://www.national.com/pf/LM/LMC662.html; ComponentLink3Description: M08A Package Page; ComponentLink3URL: http://www.national.com/packaging/folders/m08a.html
footprint M08A_N (SOIC, 8-Leads, Body 4.9x3.9mm, Pitch 1.27mm, IPC Medium Density)
footprint M08A_L (SOIC, 8-Leads, Body 4.9x3.9mm, Pitch 1.27mm, IPC High Density)
footprint M08A_M (SOIC, 8-Leads, Body 4.9x3.9mm, Pitch 1.27mm, IPC Low Density)
simulation model LMC662A (SUBCKT)
pins on every part: 4 V- (power), 8 V+ (power)
part A pins: 1 OUTA (out), 2 INA- (in), 3 INA+ (in)
part B pins: 5 INB+ (in), 6 INB- (in), 7 OUTB (out)

## LMC662AIN
designator U?
CMOS Dual Operational Amplifier, 8-pin MDIP; PartNumber: LMC662AIN; Manufacturer: National Semiconductor; PackageTopMarking: NSUZXYTTE#*LMC*662AIN; PowerWise: N; CompType: Amplifiers; Published: 4-Dec-2008; LatestRevisionDate: 13-Jan-2009; LatestRevisionNote: Sim Model Added.; DatasheetVersion: Apr-2003; PackageVersion: revG, May-2006; PackageReference: N08E; Publisher: Altium Limited; PackageDescription: MDIP, .365 x .250 x .130in, 8 Lead, .100in Pitch; Supplier 1: Farnell; Supplier Part Number 1: 9494790; RoHS: N; PinCount: 8; Code_JEDEC: MS-001-BA; ComponentLink1Description: LMC662 Datasheet; ComponentLink1URL: http://www.national.com/ds/LM/LMC662.pdf; ComponentLink2Description: LMC662 Web Page; ComponentLink2URL: http://www.national.com/pf/LM/LMC662.html; ComponentLink3Description: N08E Package Page; ComponentLink3URL: http://www.national.com/packaging/folders/n08e.html
footprint N08E (DIP, 8-Leads, Row Spacing 7.62mm, Pitch 2.54mm, Body 9.91x6.35mm)
simulation model LMC662A (SUBCKT)
pins on every part: 4 V- (power), 8 V+ (power)
part A pins: 1 OUTA (out), 2 INA- (in), 3 INA+ (in)
part B pins: 5 INB+ (in), 6 INB- (in), 7 OUTB (out)

## LMC662CM
designator U?
CMOS Dual Operational Amplifier, 8-pin Narrow SOIC; PartNumber: LMC662CM; Manufacturer: National Semiconductor; PackageTopMarking: NSZXTT*LMC66*2CM; PowerWise: N; CompType: Amplifiers; Published: 4-Dec-2008; LatestRevisionDate: 13-Jan-2009; LatestRevisionNote: Sim Model Added.; DatasheetVersion: Apr-2003; PackageVersion: revM, May-2009; PackageReference: M08A; Publisher: Altium Limited; PackageDescription: SOIC Narrow, 4.9 x 3.9 x 1.45mm, 8 Lead, 1.27mm Pitch; Supplier 1: Farnell; Supplier Part Number 1: 9493395; RoHS: N; PinCount: 8; Code_JEDEC: MS-012-AA; Code_IPC: SOIC127P600-8; ComponentLink1Description: LMC662 Datasheet; ComponentLink1URL: http://www.national.com/ds/LM/LMC662.pdf; ComponentLink2Description: LMC662 Web Page; ComponentLink2URL: http://www.national.com/pf/LM/LMC662.html; ComponentLink3Description: M08A Package Page; ComponentLink3URL: http://www.national.com/packaging/folders/m08a.html
footprint M08A_N (SOIC, 8-Leads, Body 4.9x3.9mm, Pitch 1.27mm, IPC Medium Density)
footprint M08A_L (SOIC, 8-Leads, Body 4.9x3.9mm, Pitch 1.27mm, IPC High Density)
footprint M08A_M (SOIC, 8-Leads, Body 4.9x3.9mm, Pitch 1.27mm, IPC Low Density)
simulation model LMC662A (SUBCKT)
pins on every part: 4 V- (power), 8 V+ (power)
part A pins: 1 OUTA (out), 2 INA- (in), 3 INA+ (in)
part B pins: 5 INB+ (in), 6 INB- (in), 7 OUTB (out)

## LMC662CM/NOPB
designator U?
CMOS Dual Operational Amplifier, 8-pin Narrow SOIC, Pb-Free; PartNumber: LMC662CM/NOPB; Manufacturer: National Semiconductor; PackageTopMarking: NSZXTT*LMC66*2CM; PowerWise: N; CompType: Amplifiers; Published: 1-Mar-2010; DatasheetVersion: Apr-2003; PackageVersion: revM, May-2009; PackageReference: M08A; Publisher: Altium Limited; PackageDescription: SOIC Narrow, 4.9 x 3.9 x 1.45mm, 8 Lead, 1.27mm Pitch; Supplier 1: Digi-Key; Supplier Part Number 1: LMC662CM-ND; Supplier 2: Farnell; Supplier Part Number 2: 1496032; RoHS: Y; PinCount: 8; Code_JEDEC: MS-012-AA; Code_IPC: SOIC127P600-8; ComponentLink1Description: LMC662 Datasheet; ComponentLink1URL: http://www.national.com/ds/LM/LMC662.pdf; ComponentLink2Description: LMC662 Web Page; ComponentLink2URL: http://www.national.com/pf/LM/LMC662.html; ComponentLink3Description: M08A Package Page; ComponentLink3URL: http://www.national.com/packaging/folders/m08a.html
footprint M08A_N (SOIC, 8-Leads, Body 4.9x3.9mm, Pitch 1.27mm, IPC Medium Density)
footprint M08A_L (SOIC, 8-Leads, Body 4.9x3.9mm, Pitch 1.27mm, IPC High Density)
footprint M08A_M (SOIC, 8-Leads, Body 4.9x3.9mm, Pitch 1.27mm, IPC Low Density)
simulation model LMC662A (SUBCKT)
pins on every part: 4 V- (power), 8 V+ (power)
part A pins: 1 OUTA (out), 2 INA- (in), 3 INA+ (in)
part B pins: 5 INB+ (in), 6 INB- (in), 7 OUTB (out)

## LMC662CMX
designator U?
CMOS Dual Operational Amplifier, 8-pin Narrow SOIC; PartNumber: LMC662CMX; Manufacturer: National Semiconductor; PackageTopMarking: NSZXTT*LMC66*2CM; PowerWise: N; CompType: Amplifiers; Published: 1-Mar-2010; DatasheetVersion: Apr-2003; PackageVersion: revM, May-2009; PackageReference: M08A; Publisher: Altium Limited; PackageDescription: SOIC Narrow, 4.9 x 3.9 x 1.45mm, 8 Lead, 1.27mm Pitch; RoHS: N; PinCount: 8; Code_JEDEC: MS-012-AA; Code_IPC: SOIC127P600-8; ComponentLink1Description: LMC662 Datasheet; ComponentLink1URL: http://www.national.com/ds/LM/LMC662.pdf; ComponentLink2Description: LMC662 Web Page; ComponentLink2URL: http://www.national.com/pf/LM/LMC662.html; ComponentLink3Description: M08A Package Page; ComponentLink3URL: http://www.national.com/packaging/folders/m08a.html
footprint M08A_N (SOIC, 8-Leads, Body 4.9x3.9mm, Pitch 1.27mm, IPC Medium Density)
footprint M08A_L (SOIC, 8-Leads, Body 4.9x3.9mm, Pitch 1.27mm, IPC High Density)
footprint M08A_M (SOIC, 8-Leads, Body 4.9x3.9mm, Pitch 1.27mm, IPC Low Density)
simulation model LMC662A (SUBCKT)
pins on every part: 4 V- (power), 8 V+ (power)
part A pins: 1 OUTA (out), 2 INA- (in), 3 INA+ (in)
part B pins: 5 INB+ (in), 6 INB- (in), 7 OUTB (out)

## LMC662CN
designator U?
CMOS Dual Operational Amplifier, 8-pin MDIP; PartNumber: LMC662CN; Manufacturer: National Semiconductor; PackageTopMarking: NSUZXYTTE#*LMC*662CN; PowerWise: N; CompType: Amplifiers; Published: 4-Dec-2008; LatestRevisionDate: 13-Jan-2009; LatestRevisionNote: Sim Model Added.; DatasheetVersion: Apr-2003; PackageVersion: revG, May-2006; PackageReference: N08E; Publisher: Altium Limited; PackageDescription: MDIP, .365 x .250 x .130in, 8 Lead, .100in Pitch; Supplier 1: Farnell; Supplier Part Number 1: 9487093; RoHS: N; PinCount: 8; Code_JEDEC: MS-001-BA; ComponentLink1Description: LMC662 Datasheet; ComponentLink1URL: http://www.national.com/ds/LM/LMC662.pdf; ComponentLink2Description: LMC662 Web Page; ComponentLink2URL: http://www.national.com/pf/LM/LMC662.html; ComponentLink3Description: N08E Package Page; ComponentLink3URL: http://www.national.com/packaging/folders/n08e.html
footprint N08E (DIP, 8-Leads, Row Spacing 7.62mm, Pitch 2.54mm, Body 9.91x6.35mm)
simulation model LMC662A (SUBCKT)
pins on every part: 4 V- (power), 8 V+ (power)
part A pins: 1 OUTA (out), 2 INA- (in), 3 INA+ (in)
part B pins: 5 INB+ (in), 6 INB- (in), 7 OUTB (out)

## LMC662CN/NOPB
designator U?
CMOS Dual Operational Amplifier, 8-pin MDIP, Pb-Free; PartNumber: LMC662CN/NOPB; Manufacturer: National Semiconductor; PackageTopMarking: NSUZXYTTE#*LMC*662CN; PowerWise: N; CompType: Amplifiers; Published: 1-Mar-2010; DatasheetVersion: Apr-2003; PackageVersion: revG, May-2006; PackageReference: N08E; Publisher: Altium Limited; PackageDescription: MDIP, .365 x .250 x .130in, 8 Lead, .100in Pitch; Supplier 1: Digi-Key; Supplier Part Number 1: LMC662CN-ND; Supplier 2: Farnell; Supplier Part Number 2: 1179683; RoHS: Y; PinCount: 8; Code_JEDEC: MS-001-BA; ComponentLink1Description: LMC662 Datasheet; ComponentLink1URL: http://www.national.com/ds/LM/LMC662.pdf; ComponentLink2Description: LMC662 Web Page; ComponentLink2URL: http://www.national.com/pf/LM/LMC662.html; ComponentLink3Description: N08E Package Page; ComponentLink3URL: http://www.national.com/packaging/folders/n08e.html
footprint N08E (DIP, 8-Leads, Row Spacing 7.62mm, Pitch 2.54mm, Body 9.91x6.35mm)
simulation model LMC662A (SUBCKT)
pins on every part: 4 V- (power), 8 V+ (power)
part A pins: 1 OUTA (out), 2 INA- (in), 3 INA+ (in)
part B pins: 5 INB+ (in), 6 INB- (in), 7 OUTB (out)

## LMC6001AIN
designator U?
Ultra Ultra-Low Input Current Amplifier, 8-pin MDIP; PartNumber: LMC6001AIN; Manufacturer: National Semiconductor; PackageTopMarking: NSUZXYTTE#*LMC6001*AIN; PowerWise: N; CompType: Amplifiers; Published: 4-Dec-2008; LatestRevisionDate: 13-Jan-2009; LatestRevisionNote: Sim Model Added.; DatasheetVersion: Nov-2009; PackageVersion: revG, May-2006; PackageReference: N08E; Publisher: Altium Limited; PackageDescription: MDIP, .365 x .250 x .130in, 8 Lead, .100in Pitch; Supplier 1: Digi-Key; Supplier Part Number 1: LMC6001AIN-ND; Supplier 2: Farnell; Supplier Part Number 2: 954615; RoHS: N; PinCount: 8; Code_JEDEC: MS-001-BA; ComponentLink1Description: LMC6001 Datasheet; ComponentLink1URL: http://www.national.com/ds/LM/LMC6001.pdf; ComponentLink2Description: LMC6001 Web Page; ComponentLink2URL: http://www.national.com/pf/LM/LMC6001.html; ComponentLink3Description: N08E Package Page; ComponentLink3URL: http://www.national.com/packaging/folders/n08e.html
footprint N08E (DIP, 8-Leads, Row Spacing 7.62mm, Pitch 2.54mm, Body 9.91x6.35mm)
simulation model LMC6001A (SUBCKT)
pins: 1 NC, 2 IN- (in), 3 IN+ (in), 4 V- (power), 5 NC, 6 OUT (out), 7 V+ (power), 8 NC

## LMC6001AIN/NOPB
designator U?
Ultra Ultra-Low Input Current Amplifier, 8-pin MDIP, Pb-Free; PartNumber: LMC6001AIN/NOPB; Manufacturer: National Semiconductor; PackageTopMarking: NSUZXYTTE#*LMC6001*AIN; PowerWise: N; CompType: Amplifiers; Published: 1-Mar-2010; DatasheetVersion: Nov-2009; PackageVersion: revG, May-2006; PackageReference: N08E; Publisher: Altium Limited; PackageDescription: MDIP, .365 x .250 x .130in, 8 Lead, .100in Pitch; Supplier 1: Digi-Key; Supplier Part Number 1: LMC6001AIN/NOPB-ND; Supplier 2: Farnell; Supplier Part Number 2: 1468879; RoHS: Y; PinCount: 8; Code_JEDEC: MS-001-BA; ComponentLink1Description: LMC6001 Datasheet; ComponentLink1URL: http://www.national.com/ds/LM/LMC6001.pdf; ComponentLink2Description: LMC6001 Web Page; ComponentLink2URL: http://www.national.com/pf/LM/LMC6001.html; ComponentLink3Description: N08E Package Page; ComponentLink3URL: http://www.national.com/packaging/folders/n08e.html
footprint N08E (DIP, 8-Leads, Row Spacing 7.62mm, Pitch 2.54mm, Body 9.91x6.35mm)
simulation model LMC6001A (SUBCKT)
pins: 1 NC, 2 IN- (in), 3 IN+ (in), 4 V- (power), 5 NC, 6 OUT (out), 7 V+ (power), 8 NC

## LMC6001BIN
designator U?
Ultra Ultra-Low Input Current Amplifier, 8-pin MDIP; PartNumber: LMC6001BIN; Manufacturer: National Semiconductor; PackageTopMarking: NSUZXYTTE#*LMC6001*BIN; PowerWise: N; CompType: Amplifiers; Published: 4-Dec-2008; LatestRevisionDate: 13-Jan-2009; LatestRevisionNote: Sim Model Added.; DatasheetVersion: Nov-2009; PackageVersion: revG, May-2006; PackageReference: N08E; Publisher: Altium Limited; PackageDescription: MDIP, .365 x .250 x .130in, 8 Lead, .100in Pitch; Supplier 1: Farnell; Supplier Part Number 1: 954627; RoHS: N; PinCount: 8; Code_JEDEC: MS-001-BA; ComponentLink1Description: LMC6001 Datasheet; ComponentLink1URL: http://www.national.com/ds/LM/LMC6001.pdf; ComponentLink2Description: LMC6001 Web Page; ComponentLink2URL: http://www.national.com/pf/LM/LMC6001.html; ComponentLink3Description: N08E Package Page; ComponentLink3URL: http://www.national.com/packaging/folders/n08e.html
footprint N08E (DIP, 8-Leads, Row Spacing 7.62mm, Pitch 2.54mm, Body 9.91x6.35mm)
simulation model LMC6001B (SUBCKT)
pins: 1 NC, 2 IN- (in), 3 IN+ (in), 4 V- (power), 5 NC, 6 OUT (out), 7 V+ (power), 8 NC

## LMC6022IM
designator U?
Low Power CMOS Dual Operational Amplifier, 8-pin Narrow SOIC; PartNumber: LMC6022IM; Manufacturer: National Semiconductor; PackageTopMarking: NSZXTT*LMC60*22IM; PowerWise: N; CompType: Amplifiers; Published: 4-Dec-2008; LatestRevisionDate: 13-Jan-2009; LatestRevisionNote: Sim Model Added.; DatasheetVersion: Oct-2004; PackageVersion: revM, May-2009; PackageReference: M08A; Publisher: Altium Limited; PackageDescription: SOIC Narrow, 4.9 x 3.9 x 1.45mm, 8 Lead, 1.27mm Pitch; RoHS: N; PinCount: 8; Code_JEDEC: MS-012-AA; Code_IPC: SOIC127P600-8; ComponentLink1Description: LMC6022 Datasheet; ComponentLink1URL: http://www.national.com/ds/LM/LMC6022.pdf; ComponentLink2Description: LMC6022 Web Page; ComponentLink2URL: http://www.national.com/pf/LM/LMC6022.html; ComponentLink3Description: M08A Package Page; ComponentLink3URL: http://www.national.com/packaging/folders/m08a.html
footprint M08A_N (SOIC, 8-Leads, Body 4.9x3.9mm, Pitch 1.27mm, IPC Medium Density)
footprint M08A_L (SOIC, 8-Leads, Body 4.9x3.9mm, Pitch 1.27mm, IPC High Density)
footprint M08A_M (SOIC, 8-Leads, Body 4.9x3.9mm, Pitch 1.27mm, IPC Low Density)
simulation model LMC6022 (SUBCKT)
pins on every part: 4 V- (power), 8 V+ (power)
part A pins: 1 OUTA (out), 2 INA- (in), 3 INA+ (in)
part B pins: 5 INB+ (in), 6 INB- (in), 7 OUTB (out)

## LMC6022IM/NOPB
designator U?
Low Power CMOS Dual Operational Amplifier, 8-pin Narrow SOIC, Pb-Free; PartNumber: LMC6022IM/NOPB; Manufacturer: National Semiconductor; PackageTopMarking: NSZXTT*LMC60*22IM; PowerWise: N; CompType: Amplifiers; Published: 1-Mar-2010; DatasheetVersion: Oct-2004; PackageVersion: revM, May-2009; PackageReference: M08A; Publisher: Altium Limited; PackageDescription: SOIC Narrow, 4.9 x 3.9 x 1.45mm, 8 Lead, 1.27mm Pitch; Supplier 1: Digi-Key; Supplier Part Number 1: LMC6022IM-ND; RoHS: Y; PinCount: 8; Code_JEDEC: MS-012-AA; Code_IPC: SOIC127P600-8; ComponentLink1Description: LMC6022 Datasheet; ComponentLink1URL: http://www.national.com/ds/LM/LMC6022.pdf; ComponentLink2Description: LMC6022 Web Page; ComponentLink2URL: http://www.national.com/pf/LM/LMC6022.html; ComponentLink3Description: M08A Package Page; ComponentLink3URL: http://www.national.com/packaging/folders/m08a.html
footprint M08A_N (SOIC, 8-Leads, Body 4.9x3.9mm, Pitch 1.27mm, IPC Medium Density)
footprint M08A_L (SOIC, 8-Leads, Body 4.9x3.9mm, Pitch 1.27mm, IPC High Density)
footprint M08A_M (SOIC, 8-Leads, Body 4.9x3.9mm, Pitch 1.27mm, IPC Low Density)
simulation model LMC6022 (SUBCKT)
pins on every part: 4 V- (power), 8 V+ (power)
part A pins: 1 OUTA (out), 2 INA- (in), 3 INA+ (in)
part B pins: 5 INB+ (in), 6 INB- (in), 7 OUTB (out)

## LMC6022IMX
designator U?
Low Power CMOS Dual Operational Amplifier, 8-pin Narrow SOIC; PartNumber: LMC6022IMX; Manufacturer: National Semiconductor; PackageTopMarking: NSZXTT*LMC60*22IM; PowerWise: N; CompType: Amplifiers; Published: 1-Mar-2010; DatasheetVersion: Oct-2004; PackageVersion: revM, May-2009; PackageReference: M08A; Publisher: Altium Limited; PackageDescription: SOIC Narrow, 4.9 x 3.9 x 1.45mm, 8 Lead, 1.27mm Pitch; RoHS: N; PinCount: 8; Code_JEDEC: MS-012-AA; Code_IPC: SOIC127P600-8; ComponentLink1Description: LMC6022 Datasheet; ComponentLink1URL: http://www.national.com/ds/LM/LMC6022.pdf; ComponentLink2Description: LMC6022 Web Page; ComponentLink2URL: http://www.national.com/pf/LM/LMC6022.html; ComponentLink3Description: M08A Package Page; ComponentLink3URL: http://www.national.com/packaging/folders/m08a.html
footprint M08A_N (SOIC, 8-Leads, Body 4.9x3.9mm, Pitch 1.27mm, IPC Medium Density)
footprint M08A_L (SOIC, 8-Leads, Body 4.9x3.9mm, Pitch 1.27mm, IPC High Density)
footprint M08A_M (SOIC, 8-Leads, Body 4.9x3.9mm, Pitch 1.27mm, IPC Low Density)
simulation model LMC6022 (SUBCKT)
pins on every part: 4 V- (power), 8 V+ (power)
part A pins: 1 OUTA (out), 2 INA- (in), 3 INA+ (in)
part B pins: 5 INB+ (in), 6 INB- (in), 7 OUTB (out)

## LMC6024IM
designator U?
Low Power CMOS Quad Operational Amplifier, 14-pin Narrow SOIC; PartNumber: LMC6024IM; Manufacturer: National Semiconductor; PackageTopMarking: NSUZXYTTE#*LMC6024IM; PowerWise: N; CompType: Amplifiers; Published: 4-Dec-2008; LatestRevisionDate: 13-Jan-2009; LatestRevisionNote: Sim Model Added.; DatasheetVersion: Aug-2000; PackageVersion: revJ, Jan-1996; PackageReference: M14A; Publisher: Altium Limited; PackageDescription: Molded Package S.O., .150in Wide, 14 Lead; RoHS: N; PinCount: 14; Code_JEDEC: MS-012AB; Code_IPC: SOIC127P600-14; ComponentLink1Description: LMC6024 Datasheet; ComponentLink1URL: http://www.national.com/ds/LM/LMC6024.pdf; ComponentLink2Description: LMC6024 Web Page; ComponentLink2URL: http://www.national.com/pf/LM/LMC6024.html; ComponentLink3Description: M14A Package Page; ComponentLink3URL: http://www.national.com/packaging/folders/m14a.html
footprint M14A_N (SOIC, 14-Leads, Body 8.6x3.9mm, Pitch 1.27mm, IPC Medium Density)
footprint M14A_L (SOIC, 14-Leads, Body 8.6x3.9mm, Pitch 1.27mm, IPC High Density)
footprint M14A_M (SOIC, 14-Leads, Body 8.6x3.9mm, Pitch 1.27mm, IPC Low Density)
simulation model LMC6024 (SUBCKT)
pins on every part: 4 V+ (power), 11 V- (power)
part A pins: 1 OUT1 (out), 2 IN1- (in), 3 IN1+ (in)
part B pins: 5 IN2+ (in), 6 IN2- (in), 7 OUT2 (out)
part C pins: 8 OUT3 (out), 9 IN3- (in), 10 IN3+ (in)
part D pins: 12 IN4+ (in), 13 IN4- (in), 14 OUT4 (out)

## LMC6024IMX
designator U?
Low Power CMOS Quad Operational Amplifier, 14-pin Narrow SOIC; PartNumber: LMC6024IMX; Manufacturer: National Semiconductor; PackageTopMarking: NSUZXYTTE#*LMC6024IM; PowerWise: N; CompType: Amplifiers; Published: 1-Mar-2010; DatasheetVersion: Aug-2000; PackageVersion: revJ, Jan-1996; PackageReference: M14A; Publisher: Altium Limited; PackageDescription: Molded Package S.O., .150in Wide, 14 Lead; RoHS: N; PinCount: 14; Code_JEDEC: MS-012AB; Code_IPC: SOIC127P600-14; ComponentLink1Description: LMC6024 Datasheet; ComponentLink1URL: http://www.national.com/ds/LM/LMC6024.pdf; ComponentLink2Description: LMC6024 Web Page; ComponentLink2URL: http://www.national.com/pf/LM/LMC6024.html; ComponentLink3Description: M14A Package Page; ComponentLink3URL: http://www.national.com/packaging/folders/m14a.html
footprint M14A_N (SOIC, 14-Leads, Body 8.6x3.9mm, Pitch 1.27mm, IPC Medium Density)
footprint M14A_L (SOIC, 14-Leads, Body 8.6x3.9mm, Pitch 1.27mm, IPC High Density)
footprint M14A_M (SOIC, 14-Leads, Body 8.6x3.9mm, Pitch 1.27mm, IPC Low Density)
simulation model LMC6024 (SUBCKT)
pins on every part: 4 V+ (power), 11 V- (power)
part A pins: 1 OUT1 (out), 2 IN1- (in), 3 IN1+ (in)
part B pins: 5 IN2+ (in), 6 IN2- (in), 7 OUT2 (out)
part C pins: 8 OUT3 (out), 9 IN3- (in), 10 IN3+ (in)
part D pins: 12 IN4+ (in), 13 IN4- (in), 14 OUT4 (out)

## LMC6032IM
designator U?
CMOS Dual Operational Amplifier, 8-pin Narrow SOIC; PartNumber: LMC6032IM; Manufacturer: National Semiconductor; PackageTopMarking: NSZXTT*LMC60*32IM; PowerWise: N; CompType: Amplifiers; Published: 4-Dec-2008; LatestRevisionDate: 13-Jan-2009; LatestRevisionNote: Sim Model Added.; DatasheetVersion: Aug-2000; PackageVersion: revM, May-2009; PackageReference: M08A; Publisher: Altium Limited; PackageDescription: SOIC Narrow, 4.9 x 3.9 x 1.45mm, 8 Lead, 1.27mm Pitch; Supplier 1: Digi-Key; Supplier Part Number 1: LMC6032IM-ND; RoHS: N; PinCount: 8; Code_JEDEC: MS-012-AA; Code_IPC: SOIC127P600-8; ComponentLink1Description: LMC6032 Datasheet; ComponentLink1URL: http://www.national.com/ds/LM/LMC6032.pdf; ComponentLink2Description: LMC6032 Web Page; ComponentLink2URL: http://www.national.com/pf/LM/LMC6032.html; ComponentLink3Description: M08A Package Page; ComponentLink3URL: http://www.national.com/packaging/folders/m08a.html
footprint M08A_N (SOIC, 8-Leads, Body 4.9x3.9mm, Pitch 1.27mm, IPC Medium Density)
footprint M08A_L (SOIC, 8-Leads, Body 4.9x3.9mm, Pitch 1.27mm, IPC High Density)
footprint M08A_M (SOIC, 8-Leads, Body 4.9x3.9mm, Pitch 1.27mm, IPC Low Density)
simulation model LMC6032 (SUBCKT)
pins on every part: 4 V- (power), 8 V+ (power)
part A pins: 1 OUTA (out), 2 INA- (in), 3 INA+ (in)
part B pins: 5 INB+ (in), 6 INB- (in), 7 OUTB (out)

## LMC6032IM/NOPB
designator U?
CMOS Dual Operational Amplifier, 8-pin Narrow SOIC, Pb-Free; PartNumber: LMC6032IM/NOPB; Manufacturer: National Semiconductor; PackageTopMarking: NSZXTT*LMC60*32IM; PowerWise: N; CompType: Amplifiers; Published: 1-Mar-2010; DatasheetVersion: Aug-2000; PackageVersion: revM, May-2009; PackageReference: M08A; Publisher: Altium Limited; PackageDescription: SOIC Narrow, 4.9 x 3.9 x 1.45mm, 8 Lead, 1.27mm Pitch; Supplier 1: Digi-Key; Supplier Part Number 1: LMC6032IM/NOPB-ND; Supplier 2: Farnell; Supplier Part Number 2: 1468880; RoHS: Y; PinCount: 8; Code_JEDEC: MS-012-AA; Code_IPC: SOIC127P600-8; ComponentLink1Description: LMC6032 Datasheet; ComponentLink1URL: http://www.national.com/ds/LM/LMC6032.pdf; ComponentLink2Description: LMC6032 Web Page; ComponentLink2URL: http://www.national.com/pf/LM/LMC6032.html; ComponentLink3Description: M08A Package Page; ComponentLink3URL: http://www.national.com/packaging/folders/m08a.html
footprint M08A_N (SOIC, 8-Leads, Body 4.9x3.9mm, Pitch 1.27mm, IPC Medium Density)
footprint M08A_L (SOIC, 8-Leads, Body 4.9x3.9mm, Pitch 1.27mm, IPC High Density)
footprint M08A_M (SOIC, 8-Leads, Body 4.9x3.9mm, Pitch 1.27mm, IPC Low Density)
simulation model LMC6032 (SUBCKT)
pins on every part: 4 V- (power), 8 V+ (power)
part A pins: 1 OUTA (out), 2 INA- (in), 3 INA+ (in)
part B pins: 5 INB+ (in), 6 INB- (in), 7 OUTB (out)